# Altium footprint library painel_meb.PcbLib: 17 footprints (part 2 of 2)
Each footprint in its own frame and in the unit in brackets; x right, y up, seen from the top. Pads: shape width x height; smd on the part's side, far side on the other; paste and mask are expansions set on the pad; w line width, h text height; cw(c..) or ccw(c..) is an arc to the next point about the centre after c.
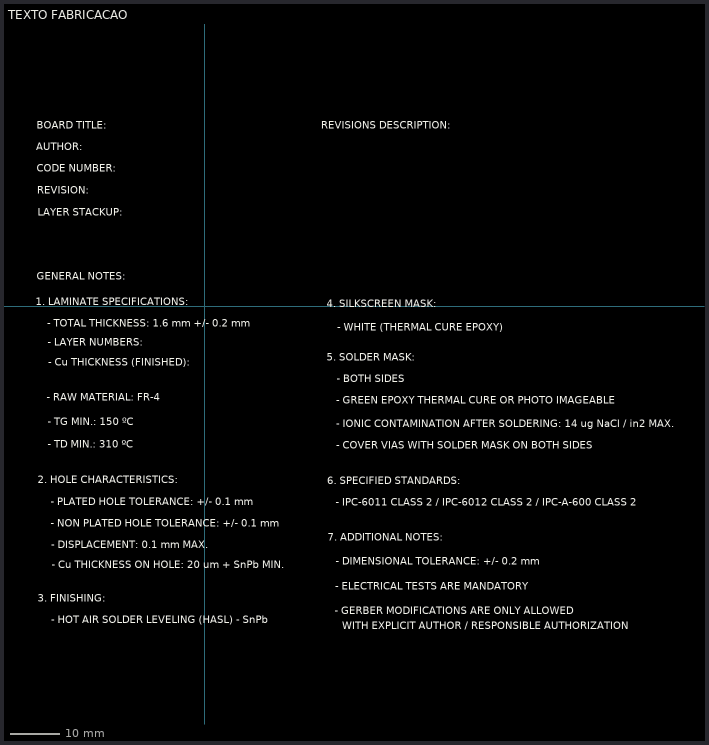
[diagram p1: the footprint, top view; thin cyan lines are the x and y axes]

## TEXTO FABRICACAO [mm]
Top Overlay:
  text "WITH EXPLICIT AUTHOR / RESPONSIBLE AUTHORIZATION" at 28.042,-66.345 h2.54
  text "- GERBER MODIFICATIONS ARE ONLY ALLOWED" at 26.492,-63.322 h2.54
  text "- ELECTRICAL TESTS ARE MANDATORY" at 26.594,-58.293 h2.54
  text "- DIMENSIONAL TOLERANCE: +/- 0.2 mm" at 26.772,-53.264 h2.54
  text "7. ADDITIONAL NOTES:" at 25.121,-48.311 h2.54
  text "- IPC-6011 CLASS 2 / IPC-6012 CLASS 2 / IPC-A-600 CLASS 2" at 26.772,-41.148 h2.54
  text "6. SPECIFIED STANDARDS:" at 25.044,-36.779 h2.54
  text "- COVER VIAS WITH SOLDER MASK ON BOTH SIDES" at 26.873,-29.515 h2.54
  text "- IONIC CONTAMINATION AFTER SOLDERING: 14 ug NaCl / in2 MAX." at 26.873,-25.146 h2.54
  text "- GREEN EPOXY THERMAL CURE OR PHOTO IMAGEABLE" at 26.873,-20.396 h2.54
  text "- BOTH SIDES" at 26.975,-15.951 h2.54
  text "5. SOLDER MASK:" at 24.943,-11.582 h2.54
  text "- WHITE (THERMAL CURE EPOXY)" at 27,-5.486 h2.54
  text "4. SILKSCREEN MASK:" at 24.943,-0.686 h2.54
  text "- HOT AIR SOLDER LEVELING (HASL) - SnPb" at -31.318,-65.151 h2.54
  text "3. FINISHING:" at -34.036,-60.757 h2.54
  text "- Cu THICKNESS ON HOLE: 20 um + SnPb MIN." at -31.217,-53.975 h2.54
  text "- DISPLACEMENT: 0.1 mm MAX." at -31.267,-49.886 h2.54
  text "- NON PLATED HOLE TOLERANCE: +/- 0.1 mm" at -31.394,-45.441 h2.54
  text "- PLATED HOLE TOLERANCE: +/- 0.1 mm" at -31.394,-41.123 h2.54
  text "2. HOLE CHARACTERISTICS:" at -34.036,-36.627 h2.54
  text "- TD MIN.: 310 ºC" at -31.979,-29.388 h2.54
  text "- TG MIN.: 150 ºC" at -31.979,-24.765 h2.54
  text "- RAW MATERIAL: FR-4" at -32.233,-19.736 h2.54
  text "- Cu THICKNESS (FINISHED):" at -31.928,-12.624 h2.54
  text "- LAYER NUMBERS:" at -32.004,-8.585 h2.54
  text "- TOTAL THICKNESS: 1.6 mm +/- 0.2 mm" at -32.106,-4.648 h2.54
  text "1. LAMINATE SPECIFICATIONS:" at -34.442,-0.279 h2.54
  text "GENERAL NOTES:" at -34.29,4.877 h2.54
  text "LAYER STACKUP:" at -34.087,18.009 h2.54
  text "REVISIONS DESCRIPTION:" at 23.8,35.712 h2.54
  text "REVISION:" at -34.188,22.454 h2.54
  text "CODE NUMBER:" at -34.29,26.924 h2.54
  text "AUTHOR:" at -34.392,31.369 h2.54
  text "BOARD TITLE:" at -34.29,35.712 h2.54